# EAGLE library part LM4666 (library m_audio)
Filterless High Efficiency Stereo 1.2W Switching Audio Amplifier See http://www.ti.com/lit/ds/symlink/lm4666.pdf
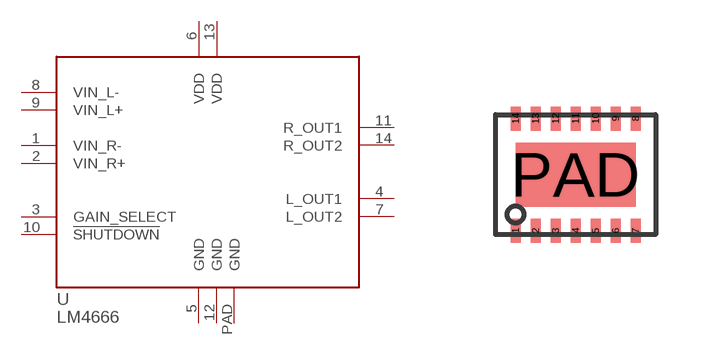
[diagram p1: symbol with the pads of 14WSON; footprint 14WSON]

Designator prefix U

## LM4666 (MANUF: TEXAS INSTRUMENTS; PARTNUM: LM4666SD)  [14WSON]
1  VIN_R-
2  VIN_R+
3  GAIN_SELECT
4  L_OUT1
5  GND
6  VDD
7  L_OUT2
8  VIN_L-
9  VIN_L+
10  !SHUTDOWN
11  R_OUT1
12  GND
13  VDD
14  R_OUT2
PAD  GND

## Footprint 14WSON (pad centres in mm)
smd 0.25 x 0.6: 1 -1.5,-1.4; 2 -1,-1.4; 3 -0.5,-1.4; 4 0,-1.4; 5 0.5,-1.4; 6 1,-1.4; 7 1.5,-1.4; 8 1.5,1.4; 9 1,1.4; 10 0.5,1.4; 11 0,1.4; 12 -0.5,1.4; 13 -1,1.4; 14 -1.5,1.4
smd 3 x 1.6: PAD 0,0